# EAGLE library part 649008227222 (library Wurth_Elektronik_Electromechanic_Wire_to_Board_Connectors_rev15c)
WR-MPC4-4.20mm Male Dual Row Angled Header with Mounting Pegs,8 pins=>Code : Con_WTB_MPC4_2_PCB_649008227222 <http://katalog.we-online.de/media/thumbs2/eican/thb_Con_WTB_MPC4_2_PCB_6490xx227222_pf2.jpg> Details see: http://katalog.we-online.de/en/em/649_0xx_227_222 Created 2014-06-06, Karrer Zheng 2014 (C) Würth Elektronik
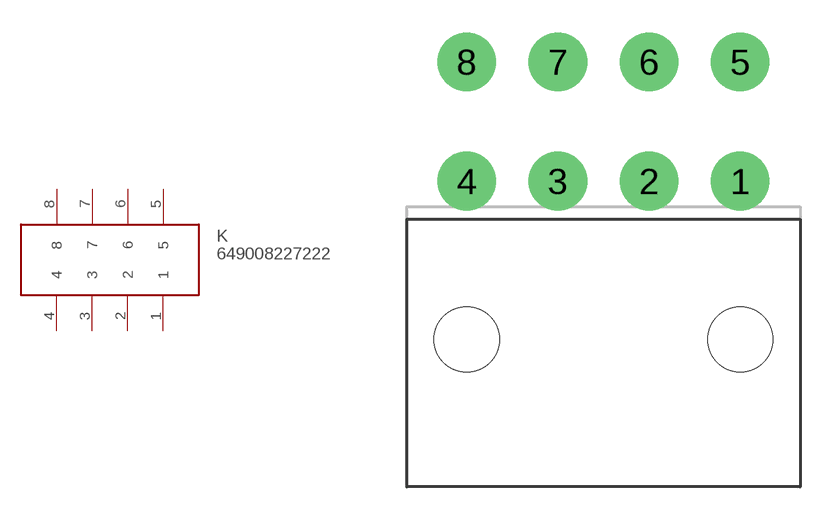
[diagram p283: symbol with the pads of 649008227222; footprint 649008227222]

Designator prefix K

## 649008227222  [649008227222]
1  1
2  2
3  3
4  4
5  5
6  6
7  7
8  8

## Footprint 649008227222 (pad centres in mm)
WR-MPC4-4.20mm Male Dual Row Angled Header with Mounting Pegs,8 pins
drill 1.8: 1 6.285,-2.75; 2 2.085,-2.75; 3 -2.115,-2.75; 4 -6.315,-2.75; 5 6.285,2.75; 6 2.085,2.75; 7 -2.115,2.75; 8 -6.315,2.75
hole 3 at 6.285,-10.05
hole 3 at -6.315,-10.05